# Altium footprint library Samsung-MLCC-0603.PcbLib: 5 footprints
Each footprint in its own frame and in the unit in brackets; x right, y up, seen from the top. Pads: shape width x height; smd on the part's side, far side on the other; paste and mask are expansions set on the pad; w line width, h text height; cw(c..) or ccw(c..) is an arc to the next point about the centre after c.
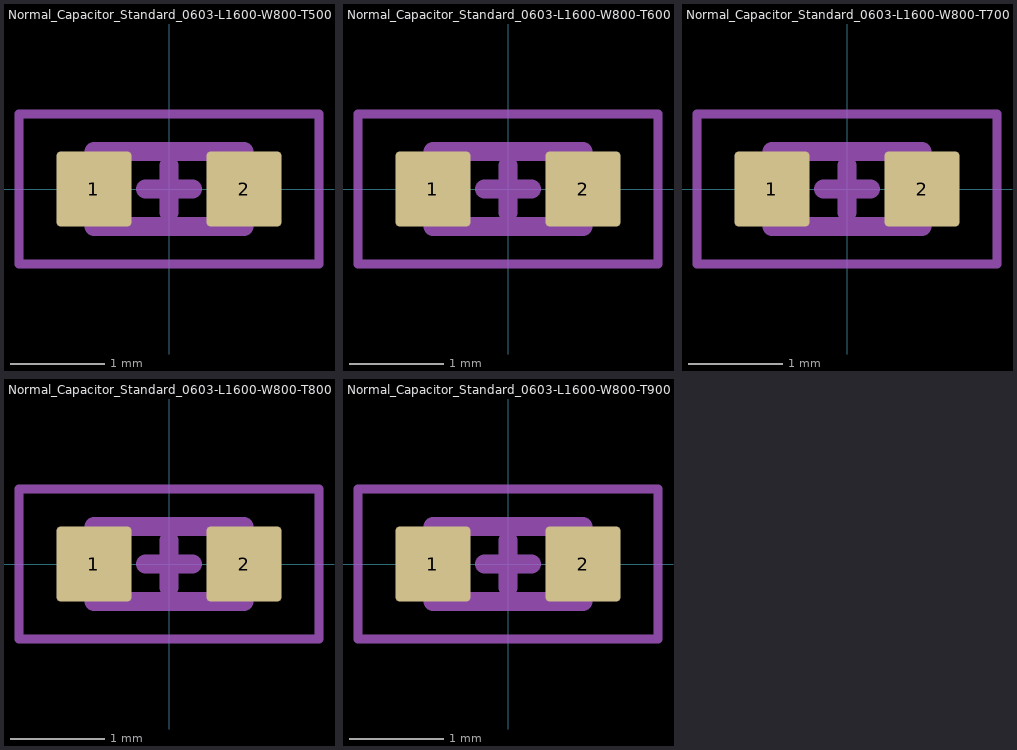
[diagram p0: the footprints below, top view; thin cyan lines are the x and y axes]

## Normal_Capacitor_Standard_0603-L1600-W800-T500 [mm]
height 0.5
pads (2):
  rrect10% 0.8x0.8 smd: 1(-0.8,0) 2(0.8,0)
Top Courtyard:
  lines w0.1: -1.6,-0.8 1.6,-0.8 1.6,0.8 -1.6,0.8 -1.6,-0.8
  lines w0.2: -0.25,0 0.25,0 ; 0,-0.25 0,0.25
Top Assembly:
  lines w0.2: -0.8,-0.4 0.8,-0.4 0.8,0.4 -0.8,0.4 -0.8,-0.4
Top Designator:
  text ".Designator" at -7.618,-0.508 h1.52
3D body "SMD_CCAP_0603-H500.STEP": height 0.5, standoff 0, extent -0.8,-0.4 0.8,0.4

## Normal_Capacitor_Standard_0603-L1600-W800-T600 [mm]
height 0.6
pads (2):
  rrect10% 0.8x0.8 smd: 1(-0.8,0) 2(0.8,0)
Top Courtyard:
  lines w0.1: -1.6,-0.8 -1.6,0.8 1.6,0.8 1.6,-0.8 -1.6,-0.8
  lines w0.2: -0.25,0 0.25,0 ; 0,-0.25 0,0.25
Top Assembly:
  lines w0.2: -0.8,-0.4 -0.8,0.4 0.8,0.4 0.8,-0.4 -0.8,-0.4
Top Designator:
  text ".Designator" at -7.618,-0.508 h1.52
3D body "SMD_CCAP_0603-H600.STEP": height 0.6, standoff 0, extent -0.8,-0.4 0.8,0.4

## Normal_Capacitor_Standard_0603-L1600-W800-T700 [mm]
height 0.7
pads (2):
  rrect10% 0.8x0.8 smd: 1(-0.8,0) 2(0.8,0)
Top Courtyard:
  lines w0.1: -1.6,-0.8 1.6,-0.8 1.6,0.8 -1.6,0.8 -1.6,-0.8
  lines w0.2: -0.25,0 0.25,0 ; 0,-0.25 0,0.25
Top Assembly:
  lines w0.2: -0.8,-0.4 0.8,-0.4 0.8,0.4 -0.8,0.4 -0.8,-0.4
Top Designator:
  text ".Designator" at -7.618,-0.508 h1.52
3D body "SMD_CCAP_0603-H700.STEP": height 0.7, standoff 0, extent -0.8,-0.4 0.8,0.4

## Normal_Capacitor_Standard_0603-L1600-W800-T800 [mm]
height 0.8
pads (2):
  rrect10% 0.8x0.8 smd: 1(-0.8,0) 2(0.8,0)
Top Courtyard:
  lines w0.1: -1.6,-0.8 1.6,-0.8 1.6,0.8 -1.6,0.8 -1.6,-0.8
  lines w0.2: -0.25,0 0.25,0 ; 0,-0.25 0,0.25
Top Assembly:
  lines w0.2: -0.8,-0.4 0.8,-0.4 0.8,0.4 -0.8,0.4 -0.8,-0.4
Top Designator:
  text ".Designator" at -7.618,-0.508 h1.52
3D body "SMD_CCAP_0603-H800.STEP": height 0.8, standoff 0, extent -0.8,-0.4 0.8,0.4

## Normal_Capacitor_Standard_0603-L1600-W800-T900 [mm]
height 0.9
pads (2):
  rrect10% 0.8x0.8 smd: 1(-0.8,0) 2(0.8,0)
Top Courtyard:
  lines w0.1: -1.6,-0.8 1.6,-0.8 1.6,0.8 -1.6,0.8 -1.6,-0.8
  lines w0.2: -0.25,0 0.25,0 ; 0,-0.25 0,0.25
Top Assembly:
  lines w0.2: -0.8,-0.4 0.8,-0.4 0.8,0.4 -0.8,0.4 -0.8,-0.4
Top Designator:
  text ".Designator" at -7.618,-0.508 h1.52
3D body "SMD_CCAP_0603-H900.STEP": height 0.9, standoff 0, extent -0.8,-0.4 0.8,0.4